# Altium footprint library 0020-03_FFT2G1.PcbLib: 60 footprints (part 4 of 4)
Each footprint in its own frame and in the unit in brackets; x right, y up, seen from the top. Pads: shape width x height; smd on the part's side, far side on the other; paste and mask are expansions set on the pad; w line width, h text height; cw(c..) or ccw(c..) is an arc to the next point about the centre after c.
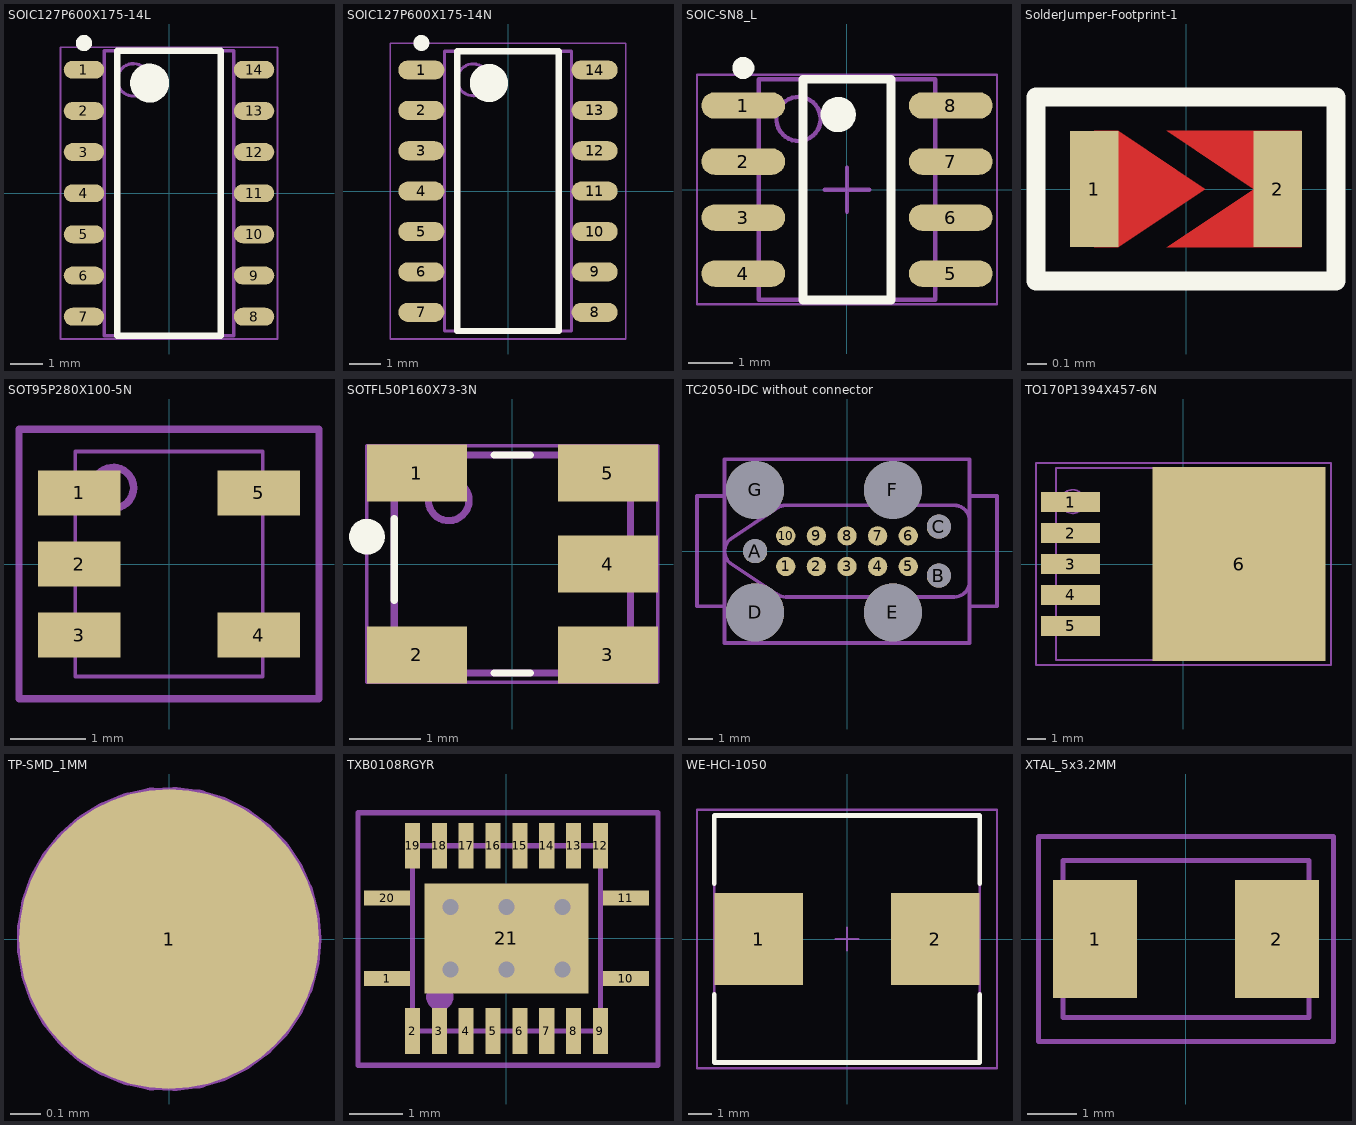
[diagram p3: the footprints below, top view; thin cyan lines are the x and y axes]

## SOIC127P600X175-14L [mm] "SOIC, 14-Leads, Body 8.8x4.0mm (max), Pitch 1.27mm, IPC High Density"
height 1.75
pads (14):
  oval 1.25x0.55 smd: 1(-2.625,3.81) 2(-2.625,2.54) 3(-2.625,1.27) 4(-2.625,0) 5(-2.625,-1.27) 6(-2.625,-2.54) 7(-2.625,-3.81) 8(2.625,-3.81) 9(2.625,-2.54) 10(2.625,-1.27) 11(2.625,0) 12(2.625,1.27) 13(2.625,2.54) 14(2.625,3.81)
Top Overlay:
  circle w0.25: c-2.625,4.635 r0.125
  circle w0.6: c-0.6,3.4 r0.3
  lines w0.2: -1.6,-4.4 -1.6,4.4 1.6,4.4 1.6,-4.4 -1.6,-4.4
Top Assembly:
  circle w0.1: c-1.1,3.5 r0.5
  lines w0.1: -2,-4.4 2,-4.4 2,4.4 -2,4.4 -2,-4.4
Top Courtyard:
  lines w0.05: -3.35,-4.5 3.35,-4.5 3.35,4.5 -3.35,4.5 -3.35,-4.5
3D body "SOIC127P600X175-14M.step": height 1.75, standoff 0, extent -3,-4.4 3,4.4

## SOIC127P600X175-14N [mm] "SOIC, 14-Leads, Body 8.8x4.0mm (max), Pitch 1.27mm, IPC Medium Density"
height 1.75
pads (14):
  oval 1.45x0.6 smd: 1(-2.725,3.81) 2(-2.725,2.54) 3(-2.725,1.27) 4(-2.725,0) 5(-2.725,-1.27) 6(-2.725,-2.54) 7(-2.725,-3.81) 8(2.725,-3.81) 9(2.725,-2.54) 10(2.725,-1.27) 11(2.725,0) 12(2.725,1.27) 13(2.725,2.54) 14(2.725,3.81)
Top Overlay:
  circle w0.25: c-2.725,4.66 r0.125
  circle w0.6: c-0.6,3.4 r0.3
  lines w0.2: -1.6,-4.4 -1.6,4.4 1.6,4.4 1.6,-4.4 -1.6,-4.4
Top Assembly:
  circle w0.1: c-1.1,3.5 r0.5
  lines w0.1: -2,-4.4 2,-4.4 2,4.4 -2,4.4 -2,-4.4
Top Courtyard:
  lines w0.05: -3.7,-4.65 3.7,-4.65 3.7,4.65 -3.7,4.65 -3.7,-4.65
3D body "SOIC127P600X175-14M.step": height 1.75, standoff 0, extent -3,-4.4 3,4.4

## SOIC-SN8_L [mm] "SOIC, 8-Leads, Body 4.9x3.9mm, Pitch 1.27mm, IPC High Density"
height 1.75
pads (8):
  oval 1.9x0.6 smd: 1(-2.35,1.905) 2(-2.35,0.635) 3(-2.35,-0.635) 4(-2.35,-1.905) 5(2.35,-1.905) 6(2.35,-0.635) 7(2.35,0.635) 8(2.35,1.905)
Top Overlay:
  circle w0.4: c-0.2,1.7 r0.2
  circle w0.25: c-2.35,2.755 r0.125
  lines w0.2: -1,-2.5 1,-2.5 1,2.5 -1,2.5 -1,-2.5
Top 3D Body:
  circle w0.1: c-1.1,1.6 r0.5
  lines w0.1: -2,-2.5 2,-2.5 2,2.5 -2,2.5 -2,-2.5
Top Courtyard:
  lines w0.05: -3.4,-2.6 3.4,-2.6 3.4,2.6 -3.4,2.6 -3.4,-2.6
  lines w0.1: -0.5,0 0.5,0 ; 0,-0.5 0,0.5
3D body: height 1.75, standoff 0.1, extent -2,-2.5 2,2.5

## SolderJumper-Footprint-1 [mm]
height 0.9
pads (2):
  rect 0.25x0.6 smd paste-0.6: 1(-0.475,0) 2(0.475,0)
Top Layer:
  region: -0.475,0
  region: 0.025,0.3
  region: -0.475,0.3 -0.35,0.3 0.1,0 -0.35,-0.3 -0.475,-0.3
  region: -0.1,0.3 0.35,0 -0.1,-0.3 0.595,-0.3 0.595,0.3
Top Overlay:
  lines w0.1: -0.775,-0.475 0.775,-0.475 0.775,0.475 -0.775,0.475 -0.775,-0.475
Top Solder:
  rectangle: -0.625,-0.325 0.625,0.325

## SOT95P280X100-5N [mm] "SOT23, 5-Leads, Body 3,1x3,0mm (max), Pitch 0,95mm, IPC Medium Density"
height 1
pads (5):
  rect 1.1x0.6 smd: 1(-1.2,0.95) 2(-1.2,0) 3(-1.2,-0.95) 4(1.2,-0.95) 5(1.2,0.95)
Top Designator:
  text ".Designator" at 0.254,-1.468 h1
Bottom 3D Body:
  circle w0.1: c-0.744,1.016 r0.272
  lines w0.05: -1.25,-1.5 -1.25,1.5 1.25,1.5 1.25,-1.5 -1.25,-1.5
Bottom Courtyard:
  lines w0.1: -2,-1.8 2,-1.8 2,1.8 -2,1.8 -2,-1.8
3D body "SOT-23-5.stp": height 1.07, standoff 0, extent -1.25,-1.5 1.25,1.5

## SOTFL50P160X73-3N [mm] "SOTFL, 3-Leads, Body 1.60x1.60mm, Pitch 0.50mm, IPC Medium Density"
height 0.73
pads (5):
  rect 1.4x0.8 smd: 1(-1.333,1.27) 2(-1.333,-1.27) 3(1.333,-1.27) 4(1.333,0) 5(1.333,1.27)
Top Overlay:
  circle w0.25: c-2.032,0.381 r0.125
  lines w0.1: -1.651,-0.508 -1.651,0.635 ; -0.254,-1.524 0.254,-1.524 ; -0.254,1.524 0.254,1.524
Top Assembly:
  circle w0.1: c-0.889,0.889 r0.284
  lines w0.1: -1.651,-1.524 1.651,-1.524 1.651,1.524 -1.651,1.524 -1.651,-1.524
Top Courtyard:
  lines w0.05: -2.032,-1.651 2.032,-1.651 2.032,1.651 -2.032,1.651 -2.032,-1.651
3D body: height 2.75, standoff 0, extent -1.608,-1.524 1.651,1.524

## TC2050-IDC without connector [mm] "TC2050-IDC"
pads (17):
  round 0.8 smd paste-0.9: 1(-2.54,-0.635) 2(-1.27,-0.635) 3(0,-0.635) 4(1.27,-0.635) 5(2.54,-0.635) 6(2.54,0.635) 7(1.27,0.635) 8(0,0.635) 9(-1.27,0.635) 10(-2.54,0.635)
  round 1 hole 1 unplated paste-1.1: A(-3.81,0) B(3.81,-1.016) C(3.81,1.016)
  round 2.4 hole 2.4 unplated paste-2.5: D(-3.81,-2.54) E(1.905,-2.54) F(1.905,2.54) G(-3.81,2.54)
Mechanical 1:
  region: -4.475,-4.875
Top 3D Body:
  lines w0.152: -5.08,-2.413 -5.08,2.286 ; 5.08,-1.27 cw(c4.445,-1.27) 4.445,-1.905 -2.54,-1.905 cw(c-2.54,-1.27) -2.921,-1.778 -4.826,-0.508 cw(c-4.445,0) -4.826,0.508 -2.921,1.778 cw(c-2.54,1.27) -2.54,1.905 4.445,1.905 cw(c4.445,1.27) 5.08,1.27 ; -5.08,2.286 -5.08,3.81 5.08,3.81 5.08,2.286 ; -5.08,2.286 -6.223,2.286 -6.223,-2.286 -5.08,-2.286 -5.08,-3.81 5.08,-3.81 5.08,-2.286 ; 5.08,-2.286 6.096,-2.286 6.223,-2.286 6.223,2.286 5.08,2.286 ; 5.08,-2.286 5.08,2.286
3D body "TAG_CONNECT_TC2050-IDC.STEP": height 29.28, standoff -2.99, extent -6.223,-4.173 6.223,4.173

## TO170P1394X457-6N [mm] "D2-PAK, 6-Pads, Body 9,4x10,5mm (max), IPC Medium Density"
height 4.572
pads (6):
  rect 3.25x1.1 smd: 1(-6.2,3.4) 2(-6.2,1.7) 3(-6.2,0) 4(-6.2,-1.7) 5(-6.2,-3.4)
  rect 9.5x10.65 smd: 6(3.05,0)
Top Designator:
  text ".Designator" at -3.429,-0.762 h3
Top 3D Body:
  circle w0.1: c-6.096,3.429 r0.648
  lines w0.1: -6.997,-5.274 -6.997,5.267 6.997,5.267 6.997,-5.274 -6.997,-5.274
Top Courtyard:
  lines w0.1: -8.1,-5.55 8.1,-5.55 8.1,5.55 -8.1,5.55 -8.1,-5.55
3D body "DDPAK.stp": height 4.57, standoff 0, extent -6.997,-5.274 6.997,5.267

## TP-SMD_1MM [mm] "TP-SMD_1MM"
pads (1):
  round 1 smd: 1(0,0)
Top 3D Body:
  circle w0.1: c0,0 r0.458

## TXB0108RGYR [mm]
pads (21):
  rect 0.85x0.28 smd mask+0.07: 1(-2.225,-0.75) 10(2.225,-0.75) 11(2.225,0.75) 20(-2.225,0.75)
  rect 0.28x0.85 smd mask+0.07: 2(-1.75,-1.725) 3(-1.25,-1.725) 4(-0.75,-1.725) 5(-0.25,-1.725) 6(0.25,-1.725) 7(0.75,-1.725) 8(1.25,-1.725) 9(1.75,-1.725) 12(1.75,1.725) 13(1.25,1.725) 14(0.75,1.725) 15(0.25,1.725) 16(-0.25,1.725) 17(-0.75,1.725) 18(-1.25,1.725) 19(-1.75,1.725)
  rect 3.05x2.05 smd mask+0.07: 21(0,0)
via 1.044,-0.582 diameter 0.6 hole 0.3
via 1.044,0.582 diameter 0.6 hole 0.3
via -1.044,0.582 diameter 0.6 hole 0.3
via -1.044,-0.582 diameter 0.6 hole 0.3
via 0,-0.582 diameter 0.6 hole 0.3
via 0,0.582 diameter 0.6 hole 0.3
Top Assembly:
  circle w0.254: c-1.242,-1.09 r0.127
  lines w0.1: -1.75,-1.725 -1.75,1.725 1.75,1.725 1.75,-1.725 -1.75,-1.725
Top Courtyard:
  lines w0.1: -2.766,-2.36 2.822,-2.36 2.822,2.339 -2.766,2.339 -2.766,-2.36
3D body: height 1, standoff 0, extent -1.75,-1.725 1.75,1.725

## WE-HCI-1050 [mm] "SMD Inductor, 2-Leads, Body 10.5 x 10.2 mm"
height 5
pads (2):
  rect 3.85x4 smd: 1(-3.825,0) 2(3.825,0)
Top Overlay:
  lines w0.2: -5.75,-2.4 -5.75,-5.35 5.75,-5.35 5.75,-2.4 ; -5.75,2.4 -5.75,5.35 5.75,5.35 5.75,2.4
Top 3D Body:
  lines w0.1: -5.75,-5.35 -5.75,5.35 5.75,5.35 5.75,-5.35 -5.75,-5.35
Top Courtyard:
  lines w0.1: -0.5,0 0.5,0 ; 0,-0.5 0,0.5 ; -6.5,-5.6 -6.5,5.6 6.5,5.6 6.5,-5.6 -6.5,-5.6
3D body "744325180.stp": height 5, standoff 0, extent -5.5,-5.1 5.5,5.1

## XTAL_5x3.2MM [mm] "XTAL_5x3.2MM"
height 0.9
pads (2):
  rect 1.7x2.4 smd: 1(-1.85,0) 2(1.85,0)
Top Designator:
  text ".Designator" at -1.7,-0.3 h1
Top 3D Body:
  lines w0.1: -2.5,-1.6 2.5,-1.6 2.5,1.6 -2.5,1.6 -2.5,-1.6
Top Courtyard:
  lines w0.1: -3,-2.087 -3,2.087 3,2.087 3,-2.087 -3,-2.087
3D body "TXC 5x3_2mm.STEP": height 1.2, standoff -0.02, extent -2.5,-1.6 2.5,1.6